# Altium footprint library PCB_IntegratedCircuit.PcbLib: 8 footprints
Each footprint in its own frame and in the unit in brackets; x right, y up, seen from the top. Pads: shape width x height; smd on the part's side, far side on the other; paste and mask are expansions set on the pad; w line width, h text height; cw(c..) or ccw(c..) is an arc to the next point about the centre after c.
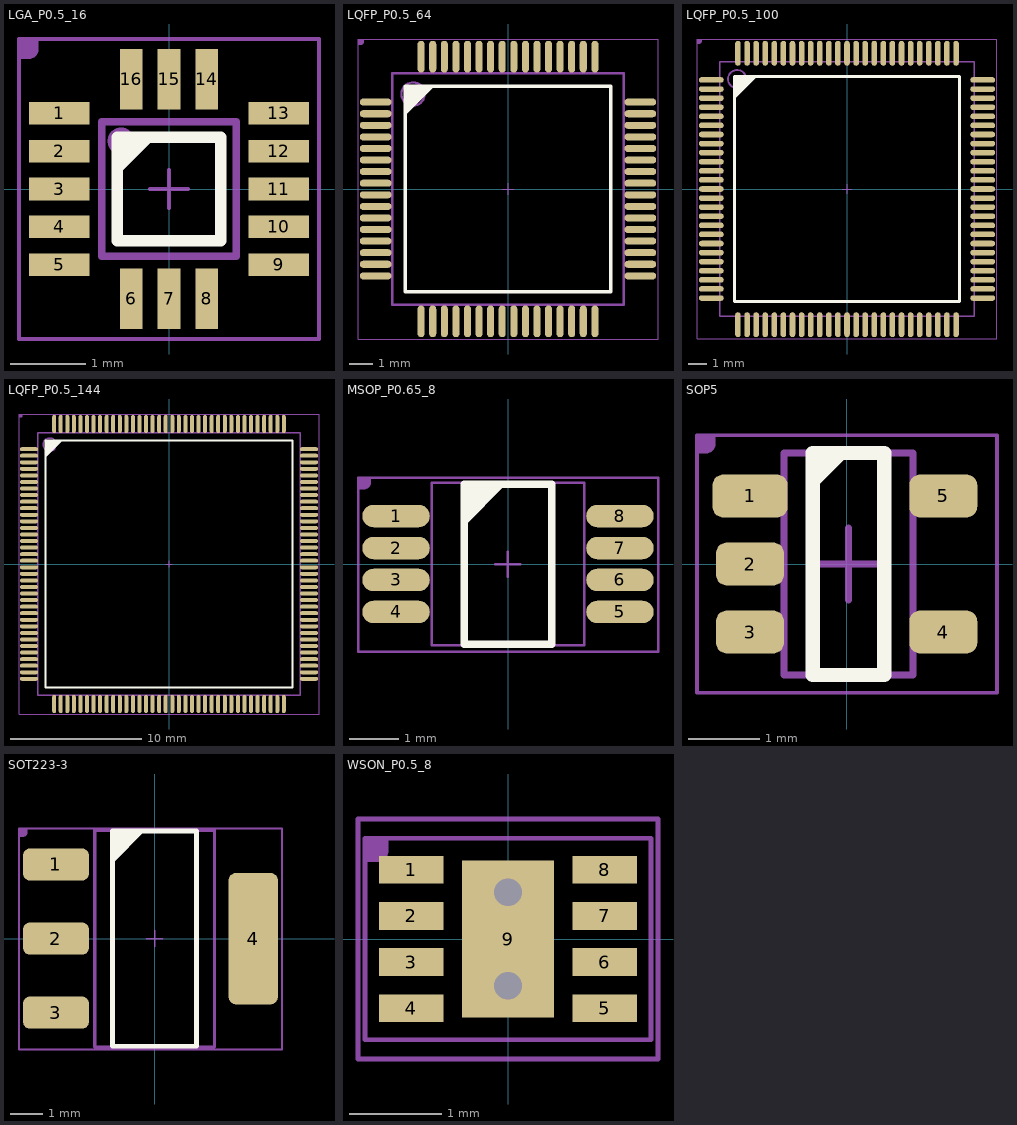
[diagram p0: the footprints below, top view; thin cyan lines are the x and y axes]

## LGA_P0.5_16 [mm]
height 0.75
pads (16):
  rect 0.8x0.3 smd: 1(-1.45,1) 2(-1.45,0.5) 3(-1.45,0) 4(-1.45,-0.5) 5(-1.45,-1) 9(1.45,-1) 10(1.45,-0.5) 11(1.45,0) 12(1.45,0.5) 13(1.45,1)
  rect 0.3x0.8 smd: 6(-0.5,-1.45) 7(0,-1.45) 8(0.5,-1.45) 14(0.5,1.45) 15(0,1.45) 16(-0.5,1.45)
Top Overlay:
  region: -0.686,0.686 -0.178,0.686 -0.686,0.178
  lines w0.152: -0.686,-0.686 0.686,-0.686 0.686,0.686 -0.686,0.686 -0.686,-0.686
Mechanical 13:
  circle w0.1: c-0.635,0.635 r0.127
  lines w0.051: -0.254,0 0.254,0 ; 0,-0.254 0,0.254
  lines w0.1: -0.889,-0.889 -0.889,0.889 0.889,0.889 0.889,-0.889 -0.889,-0.889
Mechanical 14:
  region: -1.979,1.972 -1.725,1.972 -1.725,1.845 -1.725,1.819 -1.744,1.773 -1.78,1.737 -1.827,1.718 -1.852,1.718 -1.979,1.718
  lines w0.051: -1.981,-1.981 -1.981,1.981 1.981,1.981 1.981,-1.981 -1.981,-1.981
  text ".Designator" at -1.067,-0.635 h1.27
3D body "ICM-20602.stp": height 0.8, standoff 0, extent -1.55,-1.55 1.55,1.55

## LQFP_P0.5_64 [mil]
height 47.24
pads (64):
  oval 54x12 smd: 1(-225,147.64) 2(-225,127.95) 3(-225,108.27) 4(-225,88.58) 5(-225,68.9) 6(-225,49.21) 7(-225,29.53) 8(-225,9.84) 9(-225,-9.84) 10(-225,-29.53) 11(-225,-49.21) 12(-225,-68.9) 13(-225,-88.58) 14(-225,-108.27) 15(-225,-127.95) 16(-225,-147.64) 33(225,-147.64) 34(225,-127.95) 35(225,-108.27) 36(225,-88.58) 37(225,-68.9) 38(225,-49.21) 39(225,-29.53) 40(225,-9.84) 41(225,9.84) 42(225,29.53) 43(225,49.21) 44(225,68.9) 45(225,88.58) 46(225,108.27) 47(225,127.95) 48(225,147.64)
  oval 12x54 smd: 17(-147.64,-225) 18(-127.95,-225) 19(-108.27,-225) 20(-88.58,-225) 21(-68.9,-225) 22(-49.21,-225) 23(-29.53,-225) 24(-9.84,-225) 25(9.84,-225) 26(29.53,-225) 27(49.21,-225) 28(68.9,-225) 29(88.58,-225) 30(108.27,-225) 31(127.95,-225) 32(147.64,-225) 49(147.64,225) 50(127.95,225) 51(108.27,225) 52(88.58,225) 53(68.9,225) 54(49.21,225) 55(29.53,225) 56(9.84,225) 57(-9.84,225) 58(-29.53,225) 59(-49.21,225) 60(-68.9,225) 61(-88.58,225) 62(-108.27,225) 63(-127.95,225) 64(-147.64,225)
Top Overlay:
  region: -175,175 -125,175 -175,125
  lines w6: -175,-175 175,-175 175,175 -175,175 -175,-175
Mechanical 13:
  circle w3.94: c-161.42,161.42 r19.68
  lines w2: -10,0 10,0 ; 0,-10 0,10
  lines w3.94: -196.85,-196.85 -196.85,196.85 196.85,196.85 196.85,-196.85 -196.85,-196.85
Mechanical 14:
  region: -255,255 -245,255 -245,250 -245,249.01 -245.76,247.17 -247.17,245.76 -249.01,245 -250,245 -255,245
  lines w2: -255,-255 -255,255 255,255 255,-255 -255,-255
  text ".Designator" at -42,-25 h50
3D body "User Library-lqpf64.STEP": height 59.06, standoff 0.79, extent -236.21,-236.22 236.23,236.22

## LQFP_P0.5_100 [mil]
height 62.99
pads (100):
  oval 54x12 smd: 1(-294,236.22) 2(-294,216.54) 3(-294,196.85) 4(-294,177.17) 5(-294,157.48) 6(-294,137.8) 7(-294,118.11) 8(-294,98.43) 9(-294,78.74) 10(-294,59.06) 11(-294,39.37) 12(-294,19.68) 13(-294,0) 14(-294,-19.69) 15(-294,-39.37) 16(-294,-59.06) 17(-294,-78.74) 18(-294,-98.43) 19(-294,-118.11) 20(-294,-137.8) 21(-294,-157.48) 22(-294,-177.17) 23(-294,-196.85) 24(-294,-216.54) 25(-294,-236.22) 51(294,-236.22) 52(294,-216.54) 53(294,-196.85) 54(294,-177.17) 55(294,-157.48) 56(294,-137.8) 57(294,-118.11) 58(294,-98.43) 59(294,-78.74) 60(294,-59.06) 61(294,-39.37) 62(294,-19.69) 63(294,0) 64(294,19.68) 65(294,39.37) 66(294,59.06) 67(294,78.74) 68(294,98.43) 69(294,118.11) 70(294,137.8) 71(294,157.48) 72(294,177.17) 73(294,196.85) 74(294,216.54) 75(294,236.22)
  oval 12x54 smd: 26(-236.22,-294) 27(-216.54,-294) 28(-196.85,-294) 29(-177.17,-294) 30(-157.48,-294) 31(-137.8,-294) 32(-118.11,-294) 33(-98.43,-294) 34(-78.74,-294) 35(-59.06,-294) 36(-39.37,-294) 37(-19.68,-294) 38(0,-294) 39(19.69,-294) 40(39.37,-294) 41(59.06,-294) 42(78.74,-294) 43(98.43,-294) 44(118.11,-294) 45(137.8,-294) 46(157.48,-294) 47(177.17,-294) 48(196.85,-294) 49(216.54,-294) 50(236.22,-294) 76(236.22,294) 77(216.54,294) 78(196.85,294) 79(177.17,294) 80(157.48,294) 81(137.8,294) 82(118.11,294) 83(98.43,294) 84(78.74,294) 85(59.06,294) 86(39.37,294) 87(19.69,294) 88(0,294) 89(-19.68,294) 90(-39.37,294) 91(-59.06,294) 92(-78.74,294) 93(-98.43,294) 94(-118.11,294) 95(-137.8,294) 96(-157.48,294) 97(-177.17,294) 98(-196.85,294) 99(-216.54,294) 100(-236.22,294)
Top Overlay:
  region: -244,244 -194,244 -244,194
  lines w6: -244,-244 -244,244 244,244 244,-244 -244,-244
Mechanical 13:
  circle w3.94: c-238.19,238.19 r19.68
  lines w2: -10,0 10,0 ; 0,-10 0,10
  lines w3.94: -275.59,-275.59 275.59,-275.59 275.59,275.59 -275.59,275.59 -275.59,-275.59
Mechanical 14:
  region: -325,325 -315,325 -315,320 -315,319.01 -315.76,317.17 -317.17,315.76 -319.01,315 -320,315 -325,315
  lines w2: -325,-325 -325,325 325,325 325,-325 -325,-325
  text ".Designator" at -42,-25 h50
3D body "User Library-LQFP100-0_5.STEP": height 61.5, standoff -0.39, extent -310.47,-310.47 310.49,310.48

## LQFP_P0.5_144 [mil]
height 62.99
pads (144):
  oval 54x12 smd: 1(-420,344.49) 2(-420,324.8) 3(-420,305.12) 4(-420,285.43) 5(-420,265.75) 6(-420,246.06) 7(-420,226.38) 8(-420,206.69) 9(-420,187.01) 10(-420,167.32) 11(-420,147.64) 12(-420,127.95) 13(-420,108.27) 14(-420,88.58) 15(-420,68.9) 16(-420,49.21) 17(-420,29.53) 18(-420,9.84) 19(-420,-9.84) 20(-420,-29.53) 21(-420,-49.21) 22(-420,-68.9) 23(-420,-88.58) 24(-420,-108.27) 25(-420,-127.95) 26(-420,-147.64) 27(-420,-167.32) 28(-420,-187.01) 29(-420,-206.69) 30(-420,-226.38) 31(-420,-246.06) 32(-420,-265.75) 33(-420,-285.43) 34(-420,-305.12) 35(-420,-324.8) 36(-420,-344.49) 73(420,-344.49) 74(420,-324.8) 75(420,-305.12) 76(420,-285.43) 77(420,-265.75) 78(420,-246.06) 79(420,-226.38) 80(420,-206.69) 81(420,-187.01) 82(420,-167.32) 83(420,-147.64) 84(420,-127.95) 85(420,-108.27) 86(420,-88.58) 87(420,-68.9) 88(420,-49.21) 89(420,-29.53) 90(420,-9.84) 91(420,9.84) 92(420,29.53) 93(420,49.21) 94(420,68.9) 95(420,88.58) 96(420,108.27) 97(420,127.95) 98(420,147.64) 99(420,167.32) 100(420,187.01) 101(420,206.69) 102(420,226.38) 103(420,246.06) 104(420,265.75) 105(420,285.43) 106(420,305.12) 107(420,324.8) 108(420,344.49)
  oval 12x54 smd: 37(-344.49,-420) 38(-324.8,-420) 39(-305.12,-420) 40(-285.43,-420) 41(-265.75,-420) 42(-246.06,-420) 43(-226.38,-420) 44(-206.69,-420) 45(-187.01,-420) 46(-167.32,-420) 47(-147.64,-420) 48(-127.95,-420) 49(-108.27,-420) 50(-88.58,-420) 51(-68.9,-420) 52(-49.21,-420) 53(-29.53,-420) 54(-9.84,-420) 55(9.84,-420) 56(29.53,-420) 57(49.21,-420) 58(68.9,-420) 59(88.58,-420) 60(108.27,-420) 61(127.95,-420) 62(147.64,-420) 63(167.32,-420) 64(187.01,-420) 65(206.69,-420) 66(226.38,-420) 67(246.06,-420) 68(265.75,-420) 69(285.43,-420) 70(305.12,-420) 71(324.8,-420) 72(344.49,-420) 109(344.49,420) 110(324.8,420) 111(305.12,420) 112(285.43,420) 113(265.75,420) 114(246.06,420) 115(226.38,420) 116(206.69,420) 117(187.01,420) 118(167.32,420) 119(147.64,420) 120(127.95,420) 121(108.27,420) 122(88.58,420) 123(68.9,420) 124(49.21,420) 125(29.53,420) 126(9.84,420) 127(-9.84,420) 128(-29.53,420) 129(-49.21,420) 130(-68.9,420) 131(-88.58,420) 132(-108.27,420) 133(-127.95,420) 134(-147.64,420) 135(-167.32,420) 136(-187.01,420) 137(-206.69,420) 138(-226.38,420) 139(-246.06,420) 140(-265.75,420) 141(-285.43,420) 142(-305.12,420) 143(-324.8,420) 144(-344.49,420)
Top Overlay:
  region: -370,370 -320,370 -370,320
  lines w6: -370,-370 -370,370 370,370 370,-370 -370,-370
Mechanical 13:
  circle w4: c-358.27,358.27 r19.68
  lines w2: -10,0 10,0 ; 0,-10 0,10
  lines w4: -393.7,-393.7 -393.7,393.7 393.7,393.7 393.7,-393.7 -393.7,-393.7
Mechanical 14:
  region: -450,450 -440,450 -440,445 -440,444.01 -440.76,442.17 -442.17,440.76 -444.01,440 -445,440 -450,440
  lines w2: -450,-450 450,-450 450,450 -450,450 -450,-450
  text ".Designator" at -42,-25 h50
3D body "User Library-LQFP144.STEP": height 62.99, standoff 0, extent -433.07,-433.07 433.08,433.08

## MSOP_P0.65_8 [mil]
height 43.31
pads (8):
  oval 54x18 smd: 1(-89.57,38.39) 2(-89.57,12.8) 3(-89.57,-12.8) 4(-89.57,-38.39) 5(89.57,-38.39) 6(89.57,-12.8) 7(89.57,12.8) 8(89.57,38.39)
Top Overlay:
  region: -36,64.5 -1,64.5 -36,29.5
  lines w6: -35,-64 35,-64 35,64 -35,64 -35,-64
Mechanical 13:
  lines w2: -10,0 10,0 ; 0,-10 0,10 ; -61.03,-65 -61.03,65 61.02,65 61.02,-65 -61.03,-65
Mechanical 14:
  region: -120,70 -110,70 -110,65 -110,64.01 -110.76,62.17 -112.17,60.76 -114.01,60 -115,60 -120,60
  lines w2: -120,-70 -120,69 120,69 120,-70 -120,-70
  text ".Designator" at -40,-25 h50
3D body "TSOP65P490X110-8N.step": height 43.31, standoff 0, extent -96.46,-62.99 96.46,62.99

## SOP5 [mm] "TSOP, 5-Leads, Body 2.90x1.60mm, Pitch 0.95mm, IPC Medium Density"
height 1.45
pads (5):
  rrect50% 1.05x0.6 smd: 1(-1.35,0.95)
  rrect50% 0.95x0.6 smd: 2(-1.35,0) 3(-1.35,-0.95) 4(1.35,-0.95) 5(1.35,0.95)
Top Overlay:
  region: -0.475,1.55 0.05,1.55 -0.475,1.025
  lines w0.2: -0.475,-1.55 -0.475,1.55 0.525,1.55 0.525,-1.55 -0.475,-1.55
Mechanical 13:
  lines w0.1: -0.475,0 0.525,0 ; 0.025,-0.5 0.025,0.5 ; -0.875,-1.55 -0.875,1.55 0.925,1.55 0.925,-1.55 -0.875,-1.55
Mechanical 14:
  region: -2.091,1.8 -1.837,1.8 -1.837,1.673 -1.837,1.648 -1.856,1.601 -1.892,1.565 -1.939,1.546 -1.964,1.546 -2.091,1.546
  lines w0.051: -2.091,-1.8 -2.091,1.8 2.1,1.8 2.1,-1.8 -2.091,-1.8
  text ".Designator" at -1.2,-0.6 h1.27
3D body "TSOP95P280X145-6N.step": height 1.45, standoff 0, extent -1.368,-1.55 1.418,1.55

## SOT223-3 [mil]
height 70.87
pads (4):
  rrect40% 80x39 smd: 1(-120,90.16) 2(-120,0) 3(-120,-90.16)
  rrect30% 60x160 smd: 4(120,0)
Top Overlay:
  region: -51.18,131 -11.81,131 -51.18,91.63
  lines w6: -51.18,-131 -51.18,131 51.18,131 51.18,-131 -51.18,-131
Mechanical 13:
  lines w2: -10,0 10,0 ; 0,-10 0,10
  lines w3.94: -72.83,-131.89 -72.83,131.89 72.83,131.89 72.83,-131.89 -72.83,-131.89
Mechanical 14:
  region: -165,134 -155,134 -155,129 -155,128.01 -155.76,126.17 -157.17,124.76 -159.01,124 -160,124 -165,124
  lines w2: -165,-135 -165,134 155,134 155,-135 -165,-135
  text ".Designator" at -41,-25 h50
3D body "SOT223-4.STEP": height 70.87, standoff 0, extent -143.69,-131.9 143.71,131.88

## WSON_P0.5_8 [mm] "200x200x80"
pads (9):
  rect 0.7x0.3 smd: 1(-1.05,0.75) 2(-1.05,0.25) 3(-1.05,-0.25) 4(-1.05,-0.75) 5(1.05,-0.75) 6(1.05,-0.25) 7(1.05,0.25) 8(1.05,0.75)
  rect 1x1.7 smd: 9(0,0)
via 0,-0.508 diameter 0.5 hole 0.3
via 0,0.508 diameter 0.5 hole 0.3
Mechanical 1:
  lines w0.05: -1.625,-1.3 -1.625,1.3 1.625,1.3 1.625,-1.3 -1.625,-1.3
Mechanical 14:
  region: -1.549,1.092 -1.295,1.092 -1.295,0.965 -1.295,0.94 -1.315,0.893 -1.35,0.858 -1.397,0.838 -1.422,0.838 -1.549,0.838
  lines w0.051: -1.549,-1.092 -1.549,1.092 1.549,1.092 1.549,-1.092 -1.549,-1.092
  text ".Designator" at -1.067,-0.635 h1.27
3D body "TPS62170DSGT.stp": height 0.8, standoff 0, extent -1.05,-1 1.05,1